# EAGLE library part DPM_SP400 (library wheat)
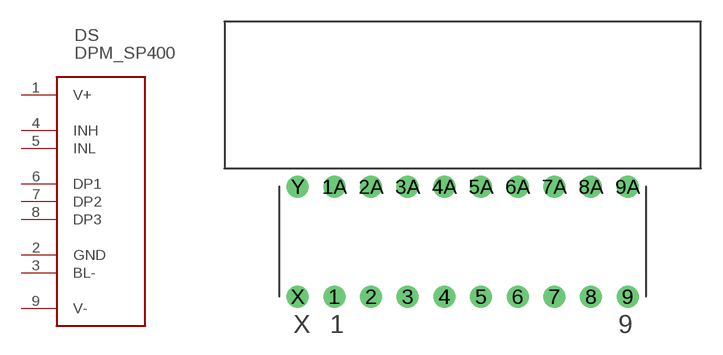
[diagram p173: symbol with the pads of DPM_SP400; footprint DPM_SP400]

Designator prefix DS

## DPM_SP400  [DPM_SP400]
1  V+  pas
2  GND  pas
3  BL-  pas
4  INH  in
5  INL  in
6  DP1  pas
7  DP2  pas
8  DP3  pas
9  V-  pas

## Footprint DPM_SP400 (pad centres in mm)
drill 1.016: 1 -8.89,-8.89; 1A -8.89,-1.27; 2 -6.35,-8.89; 2A -6.35,-1.27; 3 -3.81,-8.89; 3A -3.81,-1.27; 4 -1.27,-8.89; 4A -1.27,-1.27; 5 1.27,-8.89; 5A 1.27,-1.27; 6 3.81,-8.89; 6A 3.81,-1.27; 7 6.35,-8.89; 7A 6.35,-1.27; 8 8.89,-8.89; 8A 8.89,-1.27; 9 11.43,-8.89; 9A 11.43,-1.27; X -11.43,-8.89; Y -11.43,-1.27